# Altium footprint library ASCII Terminal.PcbLib: 20 footprints (part 2 of 2)
Each footprint in its own frame and in the unit in brackets; x right, y up, seen from the top. Pads: shape width x height; smd on the part's side, far side on the other; paste and mask are expansions set on the pad; w line width, h text height; cw(c..) or ccw(c..) is an arc to the next point about the centre after c.
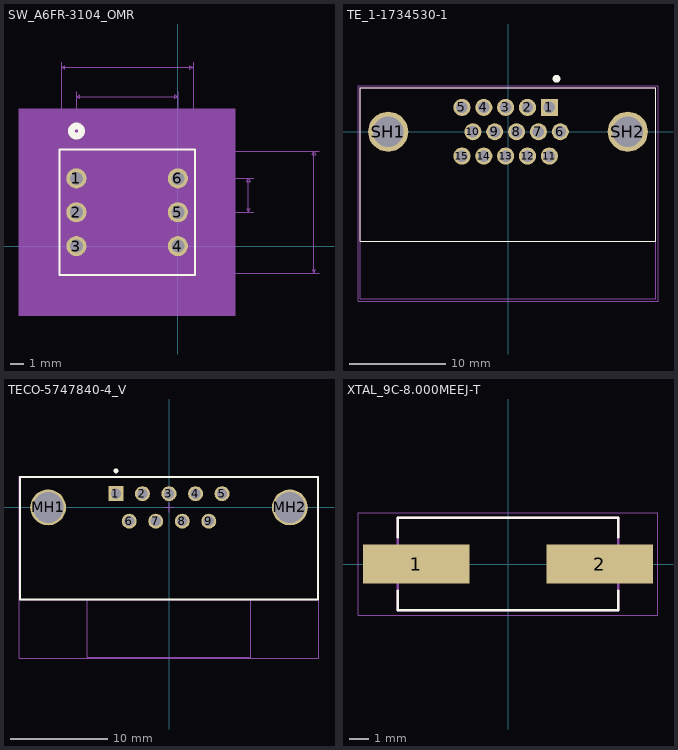
[diagram p1: the footprints below, top view; thin cyan lines are the x and y axes]

## SW_A6FR-3104_OMR [mil]
height 68.9
pads (6):
  round 59.37 hole 39 mask+0: 1(-300,200) 2(-300,100) 3(-300,0) 4(0,0) 5(0,100) 6(0,200)
Top Overlay:
  circle w20: c-300,340 r15
  lines w6: -349.88,-85.71 -349.88,285.71 49.88,285.71 49.88,-85.71 -349.88,-85.71
Bottom Overlay:
  circle w20: c-300,340 r15
Mechanical 5:
  region: -469.88,405.71 169.88,405.71 169.88,-205.71 -469.88,-205.71
Mechanical 7:
  lines w1: -344.88,225.59 -344.88,543.15 -344.88,280.71 ; -300,200 -300,456.86 ; 0,100 223.51,100 ; 0,456.86 0,200 223.51,200 ; 44.88,-80.71 417.14,-80.71 ; 44.88,543.15 44.88,280.71 417.14,280.71 ; -344.88,528.15 -334.88,523.15 -334.88,533.15 -344.88,528.15 ; -344.88,528.15 44.88,528.15 ; -300,441.86 -290,436.86 -290,446.86 -300,441.86 ; -300,441.86 0,441.86 ; 0,441.86 -10,446.86 -10,436.86 0,441.86 ; 44.88,528.15 34.88,533.15 34.88,523.15 44.88,528.15 ; 208.51,100 213.51,110 203.51,110 208.51,100 ; 208.51,100 208.51,200 ; 208.51,200 203.51,190 213.51,190 208.51,200 ; 402.14,-80.71 407.14,-70.71 397.14,-70.71 402.14,-80.71 ; 402.14,-80.71 402.14,280.71 ; 402.14,280.71 397.14,270.71 407.14,270.71 402.14,280.71
  text "0.39in/9.9mm" at -225,548.15 h25
  text "0.361in/9.18mm" at 422.14,87.5 h25
  text "0.1in/2.54mm" at 228.51,137.5 h25
  text "0.3in/7.62mm" at -225,461.86 h25
Mechanical 13:
  circle w20: c-300,275 r15
  region: -411.81,-25.59 -411.81,25.59 -344.88,25.59 -344.88,-25.59
  region: -411.81,74.41 -411.81,125.59 -344.88,125.59 -344.88,74.41
  region: -411.81,174.41 -411.81,225.59 -344.88,225.59 -344.88,174.41
  lines w1: -344.88,-80.71 -344.88,280.71 44.88,280.71 44.88,-80.71 -344.88,-80.71
Mechanical 15:
  region: -421.81,235.59 -421.81,-35.59 -354.88,-35.59 -354.88,-90.71 54.88,-90.71 54.88,290.71 -354.88,290.71 -354.88,235.59
  lines w6: -421.81,-35.59 -421.81,235.59 -354.88,235.59 -354.88,290.71 54.88,290.71 54.88,-90.71 -354.88,-90.71 -354.88,-35.59 -421.81,-35.59
3D body "A6FR_3104.step": height 401.57, standoff -125.98, extent -409.84,-79.92 46.86,281.49
3D body: height 10, standoff 0, extent 0,0 10,10

## TE_1-1734530-1 [mm]
pads (17):
  rect 1.785x1.785 hole 1.19: 1(4.315,2.54)
  round 1.785 hole 1.19: 2(2.035,2.54) 3(-0.245,2.54) 4(-2.525,2.54) 5(-4.805,2.54) 6(5.455,0) 7(3.175,0) 8(0.895,0) 9(-1.385,0) 10(-3.665,0) 11(4.315,-2.54) 12(2.035,-2.54) 13(-0.245,-2.54) 14(-2.525,-2.54) 15(-4.805,-2.54)
  round 4.196 hole 3.18: SH1(-12.5,0) SH2(12.5,0)
Top Overlay:
  circle w0.4: c5.055,5.531 r0.2
  lines w0.127: -15.4,-11.43 15.4,-11.43 15.4,4.57 -15.4,4.57 -15.4,-11.43
Mechanical 13:
  lines w0.127: -15.4,-11.43 15.4,-11.43 ; -15.4,-11.43 -15.4,-17.43 15.4,-17.43 15.4,-11.43 ; -15.4,-11.43 -15.4,4.57 15.4,4.57 15.4,-11.43
Mechanical 15:
  lines w0.05: -15.65,-17.68 -15.65,4.82 15.65,4.82 15.65,-17.68 -15.65,-17.68
3D body "c-2311763-2-b-3d.stp": height 11.38, standoff -5.27, extent -15.56,-17.377 15.24,4.423

## TECO-5747840-4_V [mm] "THD, 9-Leads, Body 30.81x18.62mm, Pitch 1.37mm"
height 12.93
pads (11):
  rect 1.55x1.55 hole 1.04: 1(-5.48,1.42)
  round 1.55 hole 1.04: 2(-2.74,1.42) 3(0,1.42) 4(2.74,1.42) 5(5.48,1.42) 6(-4.11,-1.42) 7(-1.37,-1.42) 8(1.37,-1.42) 9(4.11,-1.42)
  round 3.7 hole 3.17: MH1(-12.495,0) MH2(12.495,0)
Top Overlay:
  circle w0.25: c-5.48,3.78 r0.125
  lines w0.2: -15.405,-9.52 -15.405,3.13 15.405,3.13 15.405,-9.52 -15.405,-9.52
Mechanical 13:
  lines w0.1: -8.46,-9.52 -8.46,-15.49 8.46,-15.49 8.46,-9.52 ; -15.405,-9.52 -15.405,3.13 15.405,3.13 15.405,-9.52 -15.405,-9.52
Mechanical 15:
  lines w0.05: -15.505,-15.59 -15.505,3.23 15.505,3.23 15.505,-15.59 -15.505,-15.59
  lines w0.1: -0.5,0 0.5,0 ; 0,-0.5 0,0.5
3D body "c-5747840-4-d-3d.stp": height 12.27, standoff -3.54, extent -15.517,-15.418 15.521,3.185

## XTAL_9C-8.000MEEJ-T [mm]
pads (2):
  rect 5.5x2 smd: 1(-4.75,0) 2(4.75,0)
Top Overlay:
  lines w0.127: -5.7,-1.38 -5.7,-2.4 5.7,-2.4 5.7,-1.38 ; -5.7,1.38 -5.7,2.4 5.7,2.4 5.7,1.38
Mechanical 13:
  lines w0.127: -5.7,-2.4 5.7,-2.4 5.7,2.4 -5.7,2.4 -5.7,-2.4
Mechanical 15:
  lines w0.05: -7.75,-2.65 -7.75,2.65 7.75,2.65 7.75,-2.65 -7.75,-2.65
3D body "crystal_hc-49-smd.step": height 4.2, standoff 0, extent -5.807,-2.35 5.802,2.35